# Altium integrated library Spansion Memory Flash.IntLib: 812 symbols (part 20 of 21)
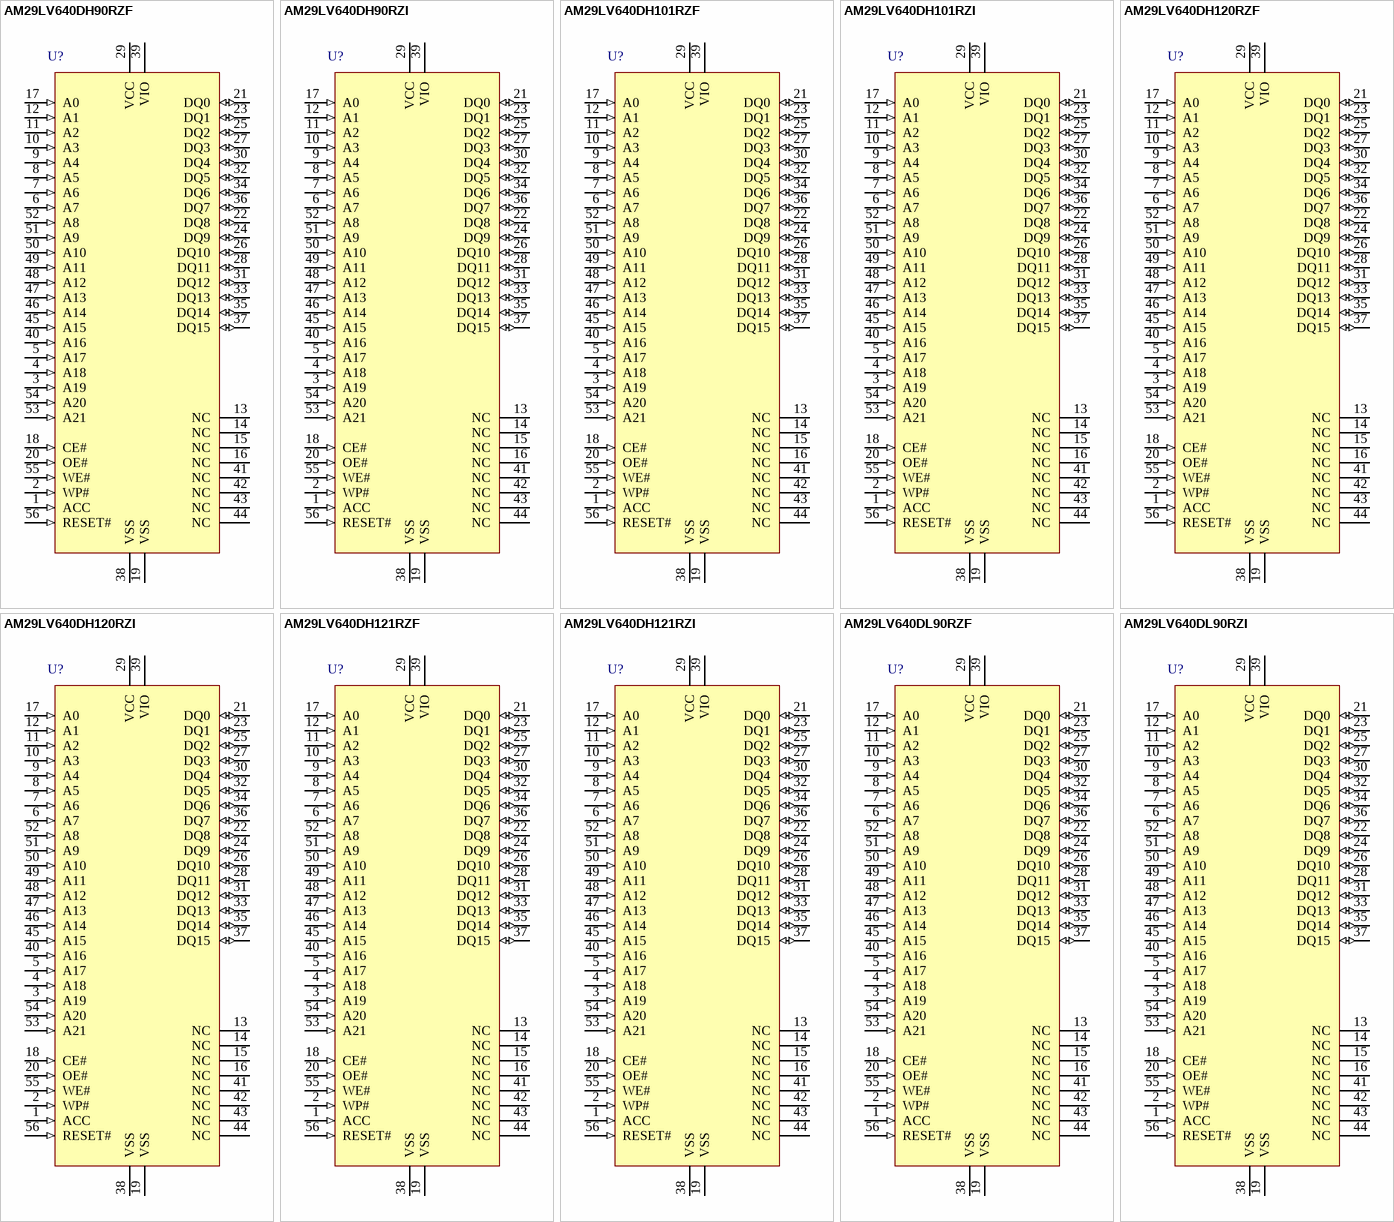
[diagram p85: symbols AM29LV640DH90RZF to AM29LV640DL90RZI]

## AM29LV640DL90RZI
designator U?
64 Mb (4 M x 16) CMOS 3.0 Volt, Uniform Sector Flash Memory with VersatileI/O Control, 56-Pin SSOP, Industrial Grade; Published: 6-Jun-2005; LatestRevisionDate: 13-Apr-2006; LatestRevisionNote: IPC-7351 Footprint Added.; DatasheetVersion: Feb-2005; PackageVersion: revAB, 10/99; PackageReference: SSO056; Publisher: Altium Limited; PackageDescription: 56-Pin Small Outline Package 0.8 mm Pitch; Code_JEDEC: MO-180-BA*; ComponentLink1Description: Manufacturer Link; ComponentLink1URL: http://www.spansion.com/; ComponentLink2Description: Datasheet; ComponentLink2URL: http://www.spansion.com/datasheets/22366c3.pdf
footprint SSO056_N (SOP, 56-Leads, Body 23.7x13.3mm, Pitch 0.8mm, IPC Medium Density)
footprint SSO056_L (SOP, 56-Leads, Body 23.7x13.3mm, Pitch 0.8mm, IPC High Density)
footprint SSO056_M (SOP, 56-Leads, Body 23.7x13.3mm, Pitch 0.8mm, IPC Low Density)
3D model SSO056 (56-Pin Small Outline Package 0.8 mm Pitch)
pins: 1 ACC (in), 2 WP# (in), 3 A19 (in), 4 A18 (in), 5 A17 (in), 6 A7 (in), 7 A6 (in), 8 A5 (in), 9 A4 (in), 10 A3 (in), 11 A2 (in), 12 A1 (in), 13 NC, 14 NC, 15 NC, 16 NC, 17 A0 (in), 18 CE# (in), 19 VSS (power), 20 OE# (in), 21 DQ0 (io), 22 DQ8 (io), 23 DQ1 (io), 24 DQ9 (io), 25 DQ2 (io), 26 DQ10 (io), 27 DQ3 (io), 28 DQ11 (io), 29 VCC (power), 30 DQ4 (io), 31 DQ12 (io), 32 DQ5 (io), 33 DQ13 (io), 34 DQ6 (io), 35 DQ14 (io), 36 DQ7 (io), 37 DQ15 (io), 38 VSS (power), 39 VIO (power), 40 A16 (in), 41 NC, 42 NC, 43 NC, 44 NC, 45 A15 (in), 46 A14 (in), 47 A13 (in), 48 A12 (in), 49 A11 (in), 50 A10 (in), 51 A9 (in), 52 A8 (in), 53 A21 (in), 54 A20 (in), 55 WE# (in), 56 RESET# (in)

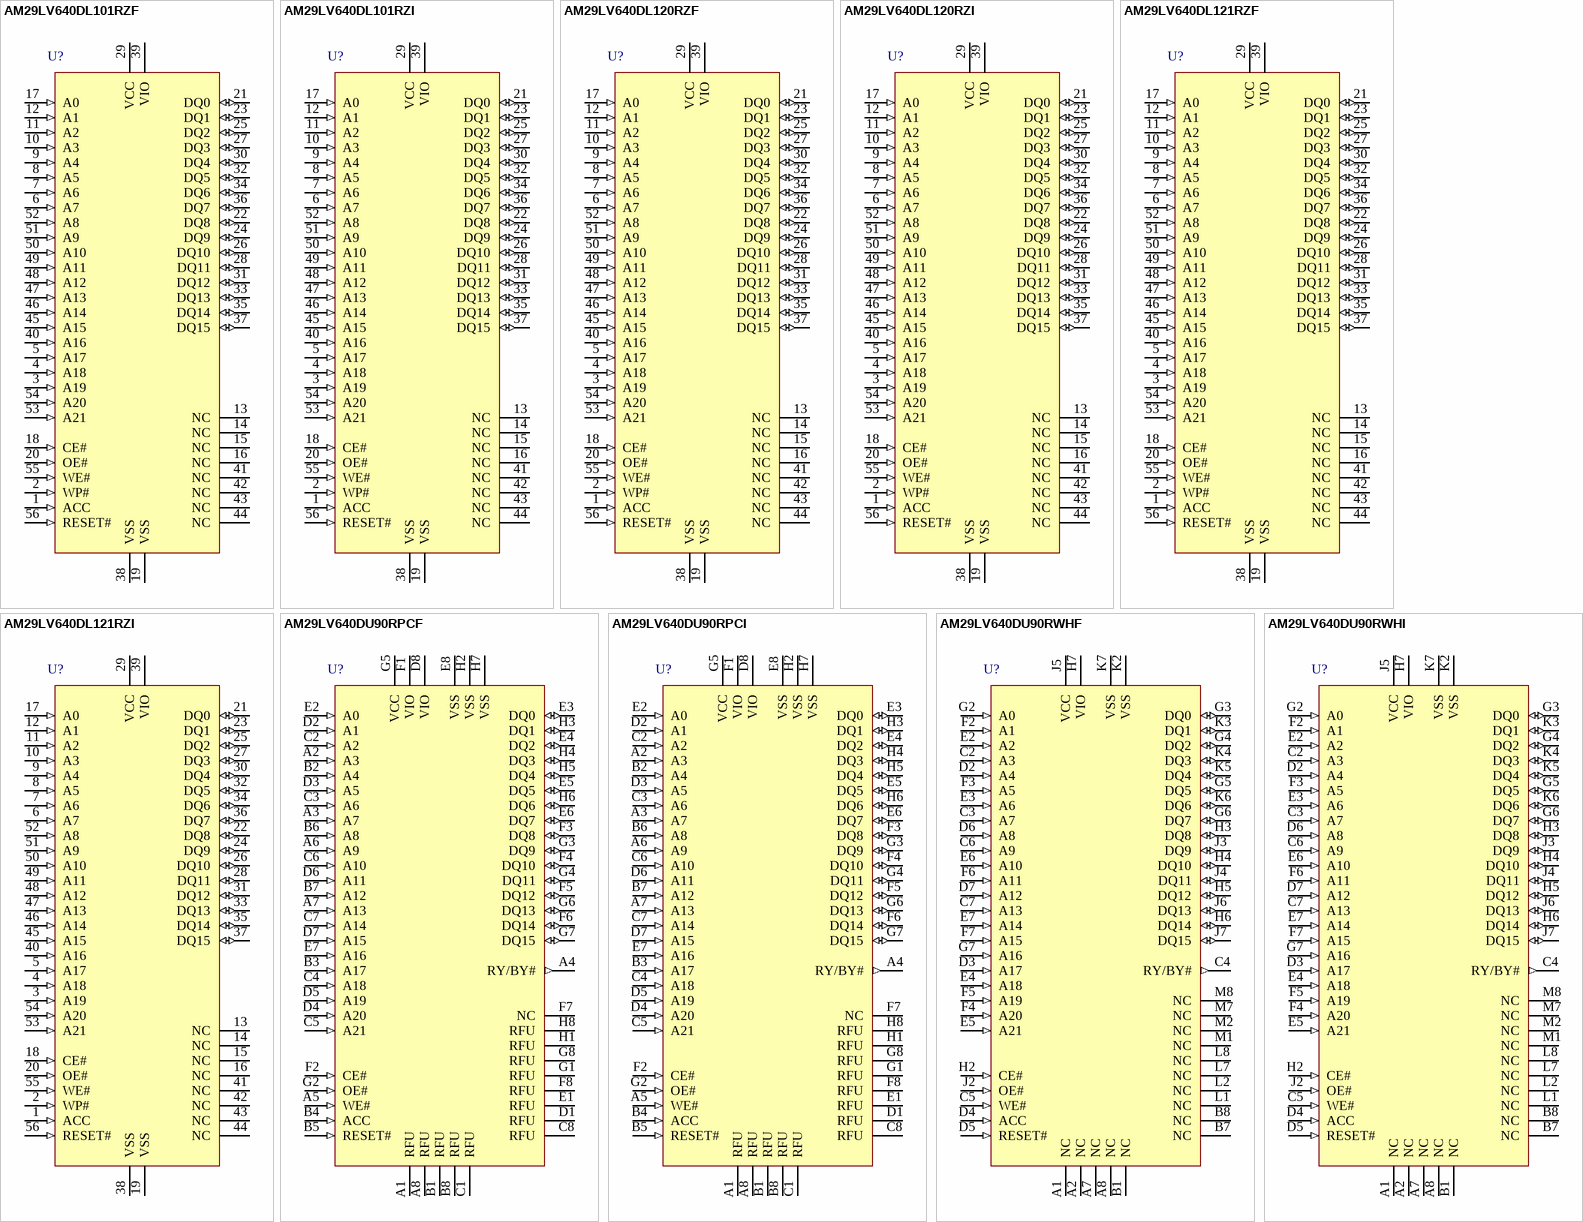
[diagram p61: symbols AM29LV640DL101RZF to AM29LV640DU90RWHI]

## AM29LV640DL101RZF
designator U?
64 Mb (4 M x 16) CMOS 3.0 Volt, Uniform Sector Flash Memory with VersatileI/O Control, 56-Pin SSOP, Industrial Grade, Pb-free; Published: 6-Jun-2005; LatestRevisionDate: 13-Apr-2006; LatestRevisionNote: IPC-7351 Footprint Added.; DatasheetVersion: Feb-2005; PackageVersion: revAB, 10/99; PackageReference: SSO056; Publisher: Altium Limited; PackageDescription: 56-Pin Small Outline Package 0.8 mm Pitch; Code_JEDEC: MO-180-BA*; ComponentLink1Description: Manufacturer Link; ComponentLink1URL: http://www.spansion.com/; ComponentLink2Description: Datasheet; ComponentLink2URL: http://www.spansion.com/datasheets/22366c3.pdf
footprint SSO056_N (SOP, 56-Leads, Body 23.7x13.3mm, Pitch 0.8mm, IPC Medium Density)
footprint SSO056_L (SOP, 56-Leads, Body 23.7x13.3mm, Pitch 0.8mm, IPC High Density)
footprint SSO056_M (SOP, 56-Leads, Body 23.7x13.3mm, Pitch 0.8mm, IPC Low Density)
3D model SSO056 (56-Pin Small Outline Package 0.8 mm Pitch)
pins: 1 ACC (in), 2 WP# (in), 3 A19 (in), 4 A18 (in), 5 A17 (in), 6 A7 (in), 7 A6 (in), 8 A5 (in), 9 A4 (in), 10 A3 (in), 11 A2 (in), 12 A1 (in), 13 NC, 14 NC, 15 NC, 16 NC, 17 A0 (in), 18 CE# (in), 19 VSS (power), 20 OE# (in), 21 DQ0 (io), 22 DQ8 (io), 23 DQ1 (io), 24 DQ9 (io), 25 DQ2 (io), 26 DQ10 (io), 27 DQ3 (io), 28 DQ11 (io), 29 VCC (power), 30 DQ4 (io), 31 DQ12 (io), 32 DQ5 (io), 33 DQ13 (io), 34 DQ6 (io), 35 DQ14 (io), 36 DQ7 (io), 37 DQ15 (io), 38 VSS (power), 39 VIO (power), 40 A16 (in), 41 NC, 42 NC, 43 NC, 44 NC, 45 A15 (in), 46 A14 (in), 47 A13 (in), 48 A12 (in), 49 A11 (in), 50 A10 (in), 51 A9 (in), 52 A8 (in), 53 A21 (in), 54 A20 (in), 55 WE# (in), 56 RESET# (in)

## AM29LV640DL101RZI
designator U?
64 Mb (4 M x 16) CMOS 3.0 Volt, Uniform Sector Flash Memory with VersatileI/O Control, 56-Pin SSOP, Industrial Grade; Published: 6-Jun-2005; LatestRevisionDate: 13-Apr-2006; LatestRevisionNote: IPC-7351 Footprint Added.; DatasheetVersion: Feb-2005; PackageVersion: revAB, 10/99; PackageReference: SSO056; Publisher: Altium Limited; PackageDescription: 56-Pin Small Outline Package 0.8 mm Pitch; Code_JEDEC: MO-180-BA*; ComponentLink1Description: Manufacturer Link; ComponentLink1URL: http://www.spansion.com/; ComponentLink2Description: Datasheet; ComponentLink2URL: http://www.spansion.com/datasheets/22366c3.pdf
footprint SSO056_N (SOP, 56-Leads, Body 23.7x13.3mm, Pitch 0.8mm, IPC Medium Density)
footprint SSO056_L (SOP, 56-Leads, Body 23.7x13.3mm, Pitch 0.8mm, IPC High Density)
footprint SSO056_M (SOP, 56-Leads, Body 23.7x13.3mm, Pitch 0.8mm, IPC Low Density)
3D model SSO056 (56-Pin Small Outline Package 0.8 mm Pitch)
pins: 1 ACC (in), 2 WP# (in), 3 A19 (in), 4 A18 (in), 5 A17 (in), 6 A7 (in), 7 A6 (in), 8 A5 (in), 9 A4 (in), 10 A3 (in), 11 A2 (in), 12 A1 (in), 13 NC, 14 NC, 15 NC, 16 NC, 17 A0 (in), 18 CE# (in), 19 VSS (power), 20 OE# (in), 21 DQ0 (io), 22 DQ8 (io), 23 DQ1 (io), 24 DQ9 (io), 25 DQ2 (io), 26 DQ10 (io), 27 DQ3 (io), 28 DQ11 (io), 29 VCC (power), 30 DQ4 (io), 31 DQ12 (io), 32 DQ5 (io), 33 DQ13 (io), 34 DQ6 (io), 35 DQ14 (io), 36 DQ7 (io), 37 DQ15 (io), 38 VSS (power), 39 VIO (power), 40 A16 (in), 41 NC, 42 NC, 43 NC, 44 NC, 45 A15 (in), 46 A14 (in), 47 A13 (in), 48 A12 (in), 49 A11 (in), 50 A10 (in), 51 A9 (in), 52 A8 (in), 53 A21 (in), 54 A20 (in), 55 WE# (in), 56 RESET# (in)

## AM29LV640DL120RZF
designator U?
64 Mb (4 M x 16) CMOS 3.0 Volt, Uniform Sector Flash Memory with VersatileI/O Control, 56-Pin SSOP, Industrial Grade, Pb-free; Published: 6-Jun-2005; LatestRevisionDate: 13-Apr-2006; LatestRevisionNote: IPC-7351 Footprint Added.; DatasheetVersion: Feb-2005; PackageVersion: revAB, 10/99; PackageReference: SSO056; Publisher: Altium Limited; PackageDescription: 56-Pin Small Outline Package 0.8 mm Pitch; Code_JEDEC: MO-180-BA*; ComponentLink1Description: Manufacturer Link; ComponentLink1URL: http://www.spansion.com/; ComponentLink2Description: Datasheet; ComponentLink2URL: http://www.spansion.com/datasheets/22366c3.pdf
footprint SSO056_N (SOP, 56-Leads, Body 23.7x13.3mm, Pitch 0.8mm, IPC Medium Density)
footprint SSO056_L (SOP, 56-Leads, Body 23.7x13.3mm, Pitch 0.8mm, IPC High Density)
footprint SSO056_M (SOP, 56-Leads, Body 23.7x13.3mm, Pitch 0.8mm, IPC Low Density)
3D model SSO056 (56-Pin Small Outline Package 0.8 mm Pitch)
pins: 1 ACC (in), 2 WP# (in), 3 A19 (in), 4 A18 (in), 5 A17 (in), 6 A7 (in), 7 A6 (in), 8 A5 (in), 9 A4 (in), 10 A3 (in), 11 A2 (in), 12 A1 (in), 13 NC, 14 NC, 15 NC, 16 NC, 17 A0 (in), 18 CE# (in), 19 VSS (power), 20 OE# (in), 21 DQ0 (io), 22 DQ8 (io), 23 DQ1 (io), 24 DQ9 (io), 25 DQ2 (io), 26 DQ10 (io), 27 DQ3 (io), 28 DQ11 (io), 29 VCC (power), 30 DQ4 (io), 31 DQ12 (io), 32 DQ5 (io), 33 DQ13 (io), 34 DQ6 (io), 35 DQ14 (io), 36 DQ7 (io), 37 DQ15 (io), 38 VSS (power), 39 VIO (power), 40 A16 (in), 41 NC, 42 NC, 43 NC, 44 NC, 45 A15 (in), 46 A14 (in), 47 A13 (in), 48 A12 (in), 49 A11 (in), 50 A10 (in), 51 A9 (in), 52 A8 (in), 53 A21 (in), 54 A20 (in), 55 WE# (in), 56 RESET# (in)

## AM29LV640DL120RZI
designator U?
64 Mb (4 M x 16) CMOS 3.0 Volt, Uniform Sector Flash Memory with VersatileI/O Control, 56-Pin SSOP, Industrial Grade; Published: 6-Jun-2005; LatestRevisionDate: 13-Apr-2006; LatestRevisionNote: IPC-7351 Footprint Added.; DatasheetVersion: Feb-2005; PackageVersion: revAB, 10/99; PackageReference: SSO056; Publisher: Altium Limited; PackageDescription: 56-Pin Small Outline Package 0.8 mm Pitch; Code_JEDEC: MO-180-BA*; ComponentLink1Description: Manufacturer Link; ComponentLink1URL: http://www.spansion.com/; ComponentLink2Description: Datasheet; ComponentLink2URL: http://www.spansion.com/datasheets/22366c3.pdf
footprint SSO056_N (SOP, 56-Leads, Body 23.7x13.3mm, Pitch 0.8mm, IPC Medium Density)
footprint SSO056_L (SOP, 56-Leads, Body 23.7x13.3mm, Pitch 0.8mm, IPC High Density)
footprint SSO056_M (SOP, 56-Leads, Body 23.7x13.3mm, Pitch 0.8mm, IPC Low Density)
3D model SSO056 (56-Pin Small Outline Package 0.8 mm Pitch)
pins: 1 ACC (in), 2 WP# (in), 3 A19 (in), 4 A18 (in), 5 A17 (in), 6 A7 (in), 7 A6 (in), 8 A5 (in), 9 A4 (in), 10 A3 (in), 11 A2 (in), 12 A1 (in), 13 NC, 14 NC, 15 NC, 16 NC, 17 A0 (in), 18 CE# (in), 19 VSS (power), 20 OE# (in), 21 DQ0 (io), 22 DQ8 (io), 23 DQ1 (io), 24 DQ9 (io), 25 DQ2 (io), 26 DQ10 (io), 27 DQ3 (io), 28 DQ11 (io), 29 VCC (power), 30 DQ4 (io), 31 DQ12 (io), 32 DQ5 (io), 33 DQ13 (io), 34 DQ6 (io), 35 DQ14 (io), 36 DQ7 (io), 37 DQ15 (io), 38 VSS (power), 39 VIO (power), 40 A16 (in), 41 NC, 42 NC, 43 NC, 44 NC, 45 A15 (in), 46 A14 (in), 47 A13 (in), 48 A12 (in), 49 A11 (in), 50 A10 (in), 51 A9 (in), 52 A8 (in), 53 A21 (in), 54 A20 (in), 55 WE# (in), 56 RESET# (in)

## AM29LV640DL121RZF
designator U?
64 Mb (4 M x 16) CMOS 3.0 Volt, Uniform Sector Flash Memory with VersatileI/O Control, 56-Pin SSOP, Industrial Grade, Pb-free; Published: 6-Jun-2005; LatestRevisionDate: 13-Apr-2006; LatestRevisionNote: IPC-7351 Footprint Added.; DatasheetVersion: Feb-2005; PackageVersion: revAB, 10/99; PackageReference: SSO056; Publisher: Altium Limited; PackageDescription: 56-Pin Small Outline Package 0.8 mm Pitch; Code_JEDEC: MO-180-BA*; ComponentLink1Description: Manufacturer Link; ComponentLink1URL: http://www.spansion.com/; ComponentLink2Description: Datasheet; ComponentLink2URL: http://www.spansion.com/datasheets/22366c3.pdf
footprint SSO056_N (SOP, 56-Leads, Body 23.7x13.3mm, Pitch 0.8mm, IPC Medium Density)
footprint SSO056_L (SOP, 56-Leads, Body 23.7x13.3mm, Pitch 0.8mm, IPC High Density)
footprint SSO056_M (SOP, 56-Leads, Body 23.7x13.3mm, Pitch 0.8mm, IPC Low Density)
3D model SSO056 (56-Pin Small Outline Package 0.8 mm Pitch)
pins: 1 ACC (in), 2 WP# (in), 3 A19 (in), 4 A18 (in), 5 A17 (in), 6 A7 (in), 7 A6 (in), 8 A5 (in), 9 A4 (in), 10 A3 (in), 11 A2 (in), 12 A1 (in), 13 NC, 14 NC, 15 NC, 16 NC, 17 A0 (in), 18 CE# (in), 19 VSS (power), 20 OE# (in), 21 DQ0 (io), 22 DQ8 (io), 23 DQ1 (io), 24 DQ9 (io), 25 DQ2 (io), 26 DQ10 (io), 27 DQ3 (io), 28 DQ11 (io), 29 VCC (power), 30 DQ4 (io), 31 DQ12 (io), 32 DQ5 (io), 33 DQ13 (io), 34 DQ6 (io), 35 DQ14 (io), 36 DQ7 (io), 37 DQ15 (io), 38 VSS (power), 39 VIO (power), 40 A16 (in), 41 NC, 42 NC, 43 NC, 44 NC, 45 A15 (in), 46 A14 (in), 47 A13 (in), 48 A12 (in), 49 A11 (in), 50 A10 (in), 51 A9 (in), 52 A8 (in), 53 A21 (in), 54 A20 (in), 55 WE# (in), 56 RESET# (in)

## AM29LV640DL121RZI
designator U?
64 Mb (4 M x 16) CMOS 3.0 Volt, Uniform Sector Flash Memory with VersatileI/O Control, 56-Pin SSOP, Industrial Grade; Published: 6-Jun-2005; LatestRevisionDate: 13-Apr-2006; LatestRevisionNote: IPC-7351 Footprint Added.; DatasheetVersion: Feb-2005; PackageVersion: revAB, 10/99; PackageReference: SSO056; Publisher: Altium Limited; PackageDescription: 56-Pin Small Outline Package 0.8 mm Pitch; Code_JEDEC: MO-180-BA*; ComponentLink1Description: Manufacturer Link; ComponentLink1URL: http://www.spansion.com/; ComponentLink2Description: Datasheet; ComponentLink2URL: http://www.spansion.com/datasheets/22366c3.pdf
footprint SSO056_N (SOP, 56-Leads, Body 23.7x13.3mm, Pitch 0.8mm, IPC Medium Density)
footprint SSO056_L (SOP, 56-Leads, Body 23.7x13.3mm, Pitch 0.8mm, IPC High Density)
footprint SSO056_M (SOP, 56-Leads, Body 23.7x13.3mm, Pitch 0.8mm, IPC Low Density)
3D model SSO056 (56-Pin Small Outline Package 0.8 mm Pitch)
pins: 1 ACC (in), 2 WP# (in), 3 A19 (in), 4 A18 (in), 5 A17 (in), 6 A7 (in), 7 A6 (in), 8 A5 (in), 9 A4 (in), 10 A3 (in), 11 A2 (in), 12 A1 (in), 13 NC, 14 NC, 15 NC, 16 NC, 17 A0 (in), 18 CE# (in), 19 VSS (power), 20 OE# (in), 21 DQ0 (io), 22 DQ8 (io), 23 DQ1 (io), 24 DQ9 (io), 25 DQ2 (io), 26 DQ10 (io), 27 DQ3 (io), 28 DQ11 (io), 29 VCC (power), 30 DQ4 (io), 31 DQ12 (io), 32 DQ5 (io), 33 DQ13 (io), 34 DQ6 (io), 35 DQ14 (io), 36 DQ7 (io), 37 DQ15 (io), 38 VSS (power), 39 VIO (power), 40 A16 (in), 41 NC, 42 NC, 43 NC, 44 NC, 45 A15 (in), 46 A14 (in), 47 A13 (in), 48 A12 (in), 49 A11 (in), 50 A10 (in), 51 A9 (in), 52 A8 (in), 53 A21 (in), 54 A20 (in), 55 WE# (in), 56 RESET# (in)

## AM29LV640DU90RPCF
designator U?
64 Mb (4 M x 16) CMOS 3.0 Volt, Uniform Sector Flash Memory with VersatileI/O Control, 64-Ball Fortified BGA, Industrial Grade, Pb-free; Published: 6-Oct-2005; LatestRevisionDate: 13-Apr-2006; LatestRevisionNote: IPC-7351 Footprint Added.; DatasheetVersion: Feb-2005; PackageVersion: Feb-2005; PackageReference: LAA064; Publisher: Altium Limited; PackageDescription: 64-Ball Fortified Ball Grid Array Rectangular 1 mm Pitch; ComponentLink1Description: Manufacturer Link; ComponentLink1URL: http://www.spansion.com/; ComponentLink2Description: Datasheet; ComponentLink2URL: http://www.spansion.com/datasheets/22366c3.pdf
footprint LAA064 (BGA, 64-Leads, Body 13x11mm, Pitch 1mm)
pins: A1 RFU, A2 A3 (in), A3 A7 (in), A4 RY/BY# (out), A5 WE# (in), A6 A9 (in), A7 A13 (in), A8 RFU, B1 RFU, B2 A4 (in), B3 A17 (in), B4 ACC (in), B5 RESET# (in), B6 A8 (in), B7 A12 (in), B8 RFU, C1 RFU, C2 A2 (in), C3 A6 (in), C4 A18 (in), C5 A21 (in), C6 A10 (in), C7 A14 (in), C8 RFU, D1 RFU, D2 A1 (in), D3 A5 (in), D4 A20 (in), D5 A19 (in), D6 A11 (in), D7 A15 (in), D8 VIO (power), E1 RFU, E2 A0 (in), E3 DQ0 (io), E4 DQ2 (io), E5 DQ5 (io), E6 DQ7 (io), E7 A16 (in), E8 VSS (power), F1 VIO (power), F2 CE# (in), F3 DQ8 (io), F4 DQ10 (io), F5 DQ12 (io), F6 DQ14 (io), F7 NC, F8 RFU, G1 RFU, G2 OE# (in), G3 DQ9 (io), G4 DQ11 (io), G5 VCC (power), G6 DQ13 (io), G7 DQ15 (io), G8 RFU, H1 RFU, H2 VSS (power), H3 DQ1 (io), H4 DQ3 (io), H5 DQ4 (io), H6 DQ6 (io), H7 VSS (power), H8 RFU

## AM29LV640DU90RPCI
designator U?
64 Mb (4 M x 16) CMOS 3.0 Volt, Uniform Sector Flash Memory with VersatileI/O Control, 64-Ball Fortified BGA, Industrial Grade; Published: 6-Oct-2005; LatestRevisionDate: 13-Apr-2006; LatestRevisionNote: IPC-7351 Footprint Added.; DatasheetVersion: Feb-2005; PackageVersion: Feb-2005; PackageReference: LAA064; Publisher: Altium Limited; PackageDescription: 64-Ball Fortified Ball Grid Array Rectangular 1 mm Pitch; ComponentLink1Description: Manufacturer Link; ComponentLink1URL: http://www.spansion.com/; ComponentLink2Description: Datasheet; ComponentLink2URL: http://www.spansion.com/datasheets/22366c3.pdf
footprint LAA064 (BGA, 64-Leads, Body 13x11mm, Pitch 1mm)
pins: A1 RFU, A2 A3 (in), A3 A7 (in), A4 RY/BY# (out), A5 WE# (in), A6 A9 (in), A7 A13 (in), A8 RFU, B1 RFU, B2 A4 (in), B3 A17 (in), B4 ACC (in), B5 RESET# (in), B6 A8 (in), B7 A12 (in), B8 RFU, C1 RFU, C2 A2 (in), C3 A6 (in), C4 A18 (in), C5 A21 (in), C6 A10 (in), C7 A14 (in), C8 RFU, D1 RFU, D2 A1 (in), D3 A5 (in), D4 A20 (in), D5 A19 (in), D6 A11 (in), D7 A15 (in), D8 VIO (power), E1 RFU, E2 A0 (in), E3 DQ0 (io), E4 DQ2 (io), E5 DQ5 (io), E6 DQ7 (io), E7 A16 (in), E8 VSS (power), F1 VIO (power), F2 CE# (in), F3 DQ8 (io), F4 DQ10 (io), F5 DQ12 (io), F6 DQ14 (io), F7 NC, F8 RFU, G1 RFU, G2 OE# (in), G3 DQ9 (io), G4 DQ11 (io), G5 VCC (power), G6 DQ13 (io), G7 DQ15 (io), G8 RFU, H1 RFU, H2 VSS (power), H3 DQ1 (io), H4 DQ3 (io), H5 DQ4 (io), H6 DQ6 (io), H7 VSS (power), H8 RFU

## AM29LV640DU90RWHF
designator U?
64 Mb (4 M x 16) CMOS 3.0 Volt, Uniform Sector Flash Memory with VersatileI/O Control, 63-Ball FBGA, Industrial Grade, Pb-free; Published: 6-Jun-2005; LatestRevisionDate: 13-Apr-2006; LatestRevisionNote: IPC-7351 Footprint Added.; DatasheetVersion: Feb-2005; PackageVersion: revAF, 10/99; PackageReference: FBE063; Publisher: Altium Limited; PackageDescription: 63-Ball Fine Pitch Ball Grid Array Rectangular 0.8 mm Pitch; ComponentLink1Description: Manufacturer Link; ComponentLink1URL: http://www.spansion.com/; ComponentLink2Description: Datasheet; ComponentLink2URL: http://www.spansion.com/datasheets/22366c3.pdf
footprint FBE063 (BGA, 63-Leads, Body 12x11mm, Pitch 0.8mm)
pins: A1 NC, A2 NC, A7 NC, A8 NC, B1 NC, B7 NC, B8 NC, C2 A3 (in), C3 A7 (in), C4 RY/BY# (out), C5 WE# (in), C6 A9 (in), C7 A13 (in), D2 A4 (in), D3 A17 (in), D4 ACC (in), D5 RESET# (in), D6 A8 (in), D7 A12 (in), E2 A2 (in), E3 A6 (in), E4 A18 (in), E5 A21 (in), E6 A10 (in), E7 A14 (in), F2 A1 (in), F3 A5 (in), F4 A20 (in), F5 A19 (in), F6 A11 (in), F7 A15 (in), G2 A0 (in), G3 DQ0 (io), G4 DQ2 (io), G5 DQ5 (io), G6 DQ7 (io), G7 A16 (in), H2 CE# (in), H3 DQ8 (io), H4 DQ10 (io), H5 DQ12 (io), H6 DQ14 (io), H7 VIO (power), J2 OE# (in), J3 DQ9 (io), J4 DQ11 (io), J5 VCC (power), J6 DQ13 (io), J7 DQ15 (io), K2 VSS (power), K3 DQ1 (io), K4 DQ3 (io), K5 DQ4 (io), K6 DQ6 (io), K7 VSS (power), L1 NC, L2 NC, L7 NC, L8 NC, M1 NC, M2 NC, M7 NC, M8 NC

## AM29LV640DU90RWHI
designator U?
64 Mb (4 M x 16) CMOS 3.0 Volt, Uniform Sector Flash Memory with VersatileI/O Control, 63-Ball FBGA, Industrial Grade; Published: 6-Jun-2005; LatestRevisionDate: 13-Apr-2006; LatestRevisionNote: IPC-7351 Footprint Added.; DatasheetVersion: Feb-2005; PackageVersion: revAF, 10/99; PackageReference: FBE063; Publisher: Altium Limited; PackageDescription: 63-Ball Fine Pitch Ball Grid Array Rectangular 0.8 mm Pitch; ComponentLink1Description: Manufacturer Link; ComponentLink1URL: http://www.spansion.com/; ComponentLink2Description: Datasheet; ComponentLink2URL: http://www.spansion.com/datasheets/22366c3.pdf
footprint FBE063 (BGA, 63-Leads, Body 12x11mm, Pitch 0.8mm)
pins: A1 NC, A2 NC, A7 NC, A8 NC, B1 NC, B7 NC, B8 NC, C2 A3 (in), C3 A7 (in), C4 RY/BY# (out), C5 WE# (in), C6 A9 (in), C7 A13 (in), D2 A4 (in), D3 A17 (in), D4 ACC (in), D5 RESET# (in), D6 A8 (in), D7 A12 (in), E2 A2 (in), E3 A6 (in), E4 A18 (in), E5 A21 (in), E6 A10 (in), E7 A14 (in), F2 A1 (in), F3 A5 (in), F4 A20 (in), F5 A19 (in), F6 A11 (in), F7 A15 (in), G2 A0 (in), G3 DQ0 (io), G4 DQ2 (io), G5 DQ5 (io), G6 DQ7 (io), G7 A16 (in), H2 CE# (in), H3 DQ8 (io), H4 DQ10 (io), H5 DQ12 (io), H6 DQ14 (io), H7 VIO (power), J2 OE# (in), J3 DQ9 (io), J4 DQ11 (io), J5 VCC (power), J6 DQ13 (io), J7 DQ15 (io), K2 VSS (power), K3 DQ1 (io), K4 DQ3 (io), K5 DQ4 (io), K6 DQ6 (io), K7 VSS (power), L1 NC, L2 NC, L7 NC, L8 NC, M1 NC, M2 NC, M7 NC, M8 NC

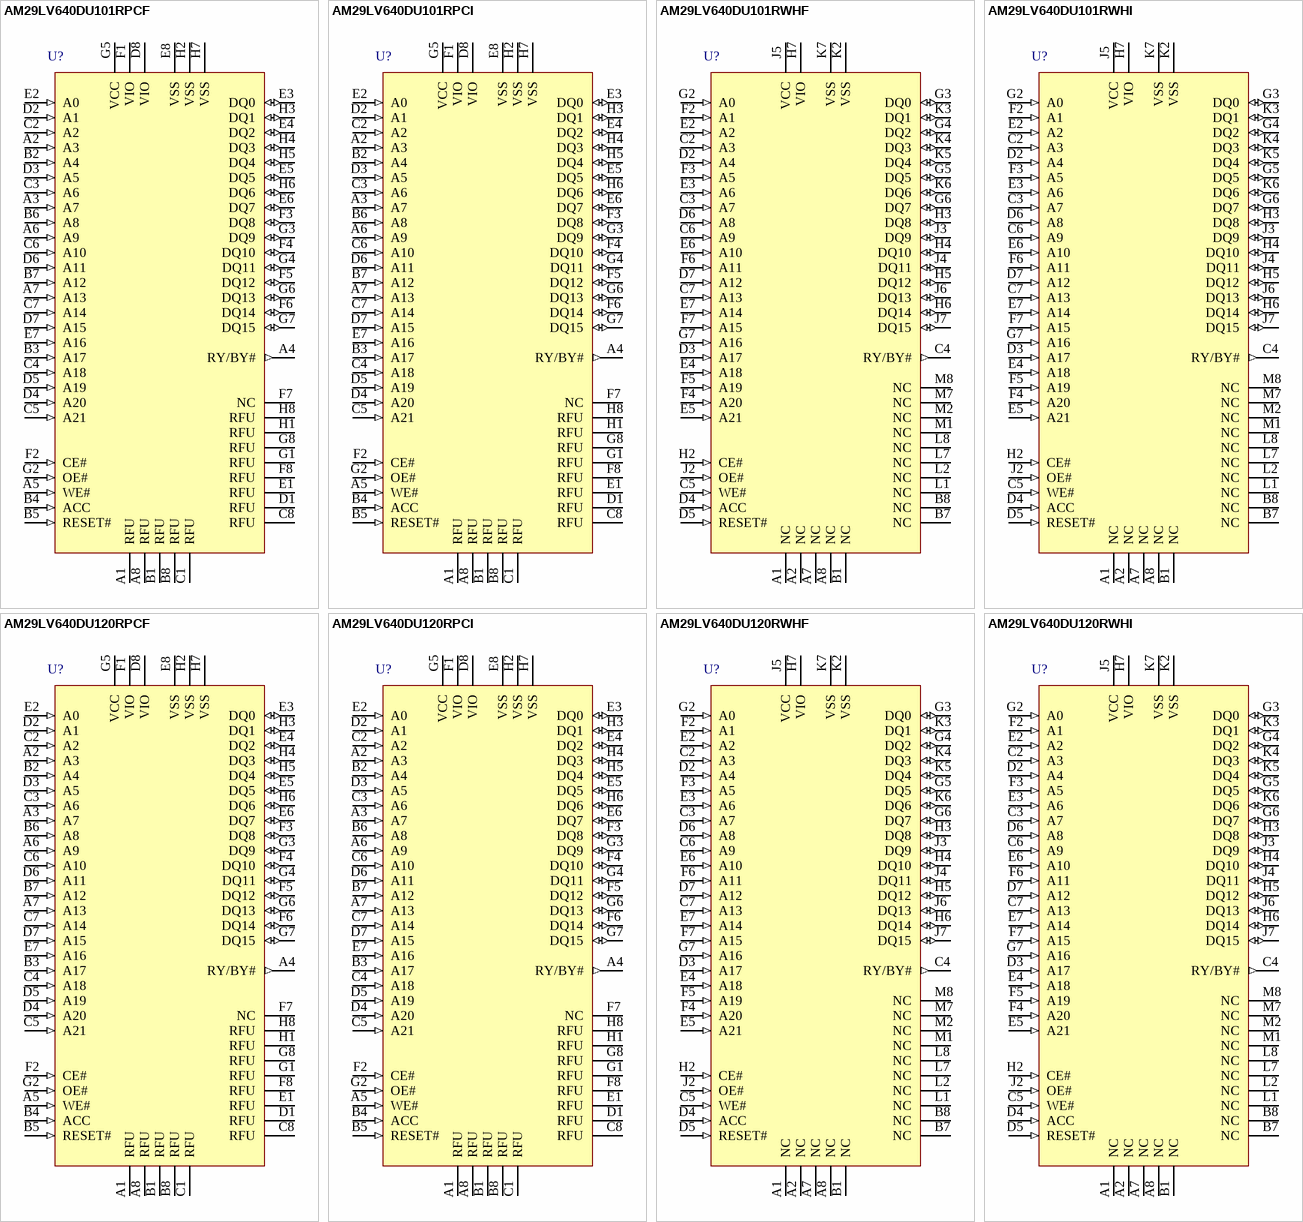
[diagram p62: symbols AM29LV640DU101RPCF to AM29LV640DU120RWHI]

## AM29LV640DU101RPCF
designator U?
64 Mb (4 M x 16) CMOS 3.0 Volt, Uniform Sector Flash Memory with VersatileI/O Control, 64-Ball Fortified BGA, Industrial Grade, Pb-free; Published: 6-Oct-2005; LatestRevisionDate: 13-Apr-2006; LatestRevisionNote: IPC-7351 Footprint Added.; DatasheetVersion: Feb-2005; PackageVersion: Feb-2005; PackageReference: LAA064; Publisher: Altium Limited; PackageDescription: 64-Ball Fortified Ball Grid Array Rectangular 1 mm Pitch; ComponentLink1Description: Manufacturer Link; ComponentLink1URL: http://www.spansion.com/; ComponentLink2Description: Datasheet; ComponentLink2URL: http://www.spansion.com/datasheets/22366c3.pdf
footprint LAA064 (BGA, 64-Leads, Body 13x11mm, Pitch 1mm)
pins: A1 RFU, A2 A3 (in), A3 A7 (in), A4 RY/BY# (out), A5 WE# (in), A6 A9 (in), A7 A13 (in), A8 RFU, B1 RFU, B2 A4 (in), B3 A17 (in), B4 ACC (in), B5 RESET# (in), B6 A8 (in), B7 A12 (in), B8 RFU, C1 RFU, C2 A2 (in), C3 A6 (in), C4 A18 (in), C5 A21 (in), C6 A10 (in), C7 A14 (in), C8 RFU, D1 RFU, D2 A1 (in), D3 A5 (in), D4 A20 (in), D5 A19 (in), D6 A11 (in), D7 A15 (in), D8 VIO (power), E1 RFU, E2 A0 (in), E3 DQ0 (io), E4 DQ2 (io), E5 DQ5 (io), E6 DQ7 (io), E7 A16 (in), E8 VSS (power), F1 VIO (power), F2 CE# (in), F3 DQ8 (io), F4 DQ10 (io), F5 DQ12 (io), F6 DQ14 (io), F7 NC, F8 RFU, G1 RFU, G2 OE# (in), G3 DQ9 (io), G4 DQ11 (io), G5 VCC (power), G6 DQ13 (io), G7 DQ15 (io), G8 RFU, H1 RFU, H2 VSS (power), H3 DQ1 (io), H4 DQ3 (io), H5 DQ4 (io), H6 DQ6 (io), H7 VSS (power), H8 RFU

## AM29LV640DU101RPCI
designator U?
64 Mb (4 M x 16) CMOS 3.0 Volt, Uniform Sector Flash Memory with VersatileI/O Control, 64-Ball Fortified BGA, Industrial Grade; Published: 6-Oct-2005; LatestRevisionDate: 13-Apr-2006; LatestRevisionNote: IPC-7351 Footprint Added.; DatasheetVersion: Feb-2005; PackageVersion: Feb-2005; PackageReference: LAA064; Publisher: Altium Limited; PackageDescription: 64-Ball Fortified Ball Grid Array Rectangular 1 mm Pitch; ComponentLink1Description: Manufacturer Link; ComponentLink1URL: http://www.spansion.com/; ComponentLink2Description: Datasheet; ComponentLink2URL: http://www.spansion.com/datasheets/22366c3.pdf
footprint LAA064 (BGA, 64-Leads, Body 13x11mm, Pitch 1mm)
pins: A1 RFU, A2 A3 (in), A3 A7 (in), A4 RY/BY# (out), A5 WE# (in), A6 A9 (in), A7 A13 (in), A8 RFU, B1 RFU, B2 A4 (in), B3 A17 (in), B4 ACC (in), B5 RESET# (in), B6 A8 (in), B7 A12 (in), B8 RFU, C1 RFU, C2 A2 (in), C3 A6 (in), C4 A18 (in), C5 A21 (in), C6 A10 (in), C7 A14 (in), C8 RFU, D1 RFU, D2 A1 (in), D3 A5 (in), D4 A20 (in), D5 A19 (in), D6 A11 (in), D7 A15 (in), D8 VIO (power), E1 RFU, E2 A0 (in), E3 DQ0 (io), E4 DQ2 (io), E5 DQ5 (io), E6 DQ7 (io), E7 A16 (in), E8 VSS (power), F1 VIO (power), F2 CE# (in), F3 DQ8 (io), F4 DQ10 (io), F5 DQ12 (io), F6 DQ14 (io), F7 NC, F8 RFU, G1 RFU, G2 OE# (in), G3 DQ9 (io), G4 DQ11 (io), G5 VCC (power), G6 DQ13 (io), G7 DQ15 (io), G8 RFU, H1 RFU, H2 VSS (power), H3 DQ1 (io), H4 DQ3 (io), H5 DQ4 (io), H6 DQ6 (io), H7 VSS (power), H8 RFU

## AM29LV640DU101RWHF
designator U?
64 Mb (4 M x 16) CMOS 3.0 Volt, Uniform Sector Flash Memory with VersatileI/O Control, 63-Ball FBGA, Industrial Grade, Pb-free; Published: 6-Jun-2005; LatestRevisionDate: 13-Apr-2006; LatestRevisionNote: IPC-7351 Footprint Added.; DatasheetVersion: Feb-2005; PackageVersion: revAF, 10/99; PackageReference: FBE063; Publisher: Altium Limited; PackageDescription: 63-Ball Fine Pitch Ball Grid Array Rectangular 0.8 mm Pitch; ComponentLink1Description: Manufacturer Link; ComponentLink1URL: http://www.spansion.com/; ComponentLink2Description: Datasheet; ComponentLink2URL: http://www.spansion.com/datasheets/22366c3.pdf
footprint FBE063 (BGA, 63-Leads, Body 12x11mm, Pitch 0.8mm)
pins: A1 NC, A2 NC, A7 NC, A8 NC, B1 NC, B7 NC, B8 NC, C2 A3 (in), C3 A7 (in), C4 RY/BY# (out), C5 WE# (in), C6 A9 (in), C7 A13 (in), D2 A4 (in), D3 A17 (in), D4 ACC (in), D5 RESET# (in), D6 A8 (in), D7 A12 (in), E2 A2 (in), E3 A6 (in), E4 A18 (in), E5 A21 (in), E6 A10 (in), E7 A14 (in), F2 A1 (in), F3 A5 (in), F4 A20 (in), F5 A19 (in), F6 A11 (in), F7 A15 (in), G2 A0 (in), G3 DQ0 (io), G4 DQ2 (io), G5 DQ5 (io), G6 DQ7 (io), G7 A16 (in), H2 CE# (in), H3 DQ8 (io), H4 DQ10 (io), H5 DQ12 (io), H6 DQ14 (io), H7 VIO (power), J2 OE# (in), J3 DQ9 (io), J4 DQ11 (io), J5 VCC (power), J6 DQ13 (io), J7 DQ15 (io), K2 VSS (power), K3 DQ1 (io), K4 DQ3 (io), K5 DQ4 (io), K6 DQ6 (io), K7 VSS (power), L1 NC, L2 NC, L7 NC, L8 NC, M1 NC, M2 NC, M7 NC, M8 NC

## AM29LV640DU101RWHI
designator U?
64 Mb (4 M x 16) CMOS 3.0 Volt, Uniform Sector Flash Memory with VersatileI/O Control, 63-Ball FBGA, Industrial Grade; Published: 6-Jun-2005; LatestRevisionDate: 13-Apr-2006; LatestRevisionNote: IPC-7351 Footprint Added.; DatasheetVersion: Feb-2005; PackageVersion: revAF, 10/99; PackageReference: FBE063; Publisher: Altium Limited; PackageDescription: 63-Ball Fine Pitch Ball Grid Array Rectangular 0.8 mm Pitch; ComponentLink1Description: Manufacturer Link; ComponentLink1URL: http://www.spansion.com/; ComponentLink2Description: Datasheet; ComponentLink2URL: http://www.spansion.com/datasheets/22366c3.pdf
footprint FBE063 (BGA, 63-Leads, Body 12x11mm, Pitch 0.8mm)
pins: A1 NC, A2 NC, A7 NC, A8 NC, B1 NC, B7 NC, B8 NC, C2 A3 (in), C3 A7 (in), C4 RY/BY# (out), C5 WE# (in), C6 A9 (in), C7 A13 (in), D2 A4 (in), D3 A17 (in), D4 ACC (in), D5 RESET# (in), D6 A8 (in), D7 A12 (in), E2 A2 (in), E3 A6 (in), E4 A18 (in), E5 A21 (in), E6 A10 (in), E7 A14 (in), F2 A1 (in), F3 A5 (in), F4 A20 (in), F5 A19 (in), F6 A11 (in), F7 A15 (in), G2 A0 (in), G3 DQ0 (io), G4 DQ2 (io), G5 DQ5 (io), G6 DQ7 (io), G7 A16 (in), H2 CE# (in), H3 DQ8 (io), H4 DQ10 (io), H5 DQ12 (io), H6 DQ14 (io), H7 VIO (power), J2 OE# (in), J3 DQ9 (io), J4 DQ11 (io), J5 VCC (power), J6 DQ13 (io), J7 DQ15 (io), K2 VSS (power), K3 DQ1 (io), K4 DQ3 (io), K5 DQ4 (io), K6 DQ6 (io), K7 VSS (power), L1 NC, L2 NC, L7 NC, L8 NC, M1 NC, M2 NC, M7 NC, M8 NC

## AM29LV640DU120RPCF
designator U?
64 Mb (4 M x 16) CMOS 3.0 Volt, Uniform Sector Flash Memory with VersatileI/O Control, 64-Ball Fortified BGA, Industrial Grade, Pb-free; Published: 6-Oct-2005; LatestRevisionDate: 13-Apr-2006; LatestRevisionNote: IPC-7351 Footprint Added.; DatasheetVersion: Feb-2005; PackageVersion: Feb-2005; PackageReference: LAA064; Publisher: Altium Limited; PackageDescription: 64-Ball Fortified Ball Grid Array Rectangular 1 mm Pitch; ComponentLink1Description: Manufacturer Link; ComponentLink1URL: http://www.spansion.com/; ComponentLink2Description: Datasheet; ComponentLink2URL: http://www.spansion.com/datasheets/22366c3.pdf
footprint LAA064 (BGA, 64-Leads, Body 13x11mm, Pitch 1mm)
pins: A1 RFU, A2 A3 (in), A3 A7 (in), A4 RY/BY# (out), A5 WE# (in), A6 A9 (in), A7 A13 (in), A8 RFU, B1 RFU, B2 A4 (in), B3 A17 (in), B4 ACC (in), B5 RESET# (in), B6 A8 (in), B7 A12 (in), B8 RFU, C1 RFU, C2 A2 (in), C3 A6 (in), C4 A18 (in), C5 A21 (in), C6 A10 (in), C7 A14 (in), C8 RFU, D1 RFU, D2 A1 (in), D3 A5 (in), D4 A20 (in), D5 A19 (in), D6 A11 (in), D7 A15 (in), D8 VIO (power), E1 RFU, E2 A0 (in), E3 DQ0 (io), E4 DQ2 (io), E5 DQ5 (io), E6 DQ7 (io), E7 A16 (in), E8 VSS (power), F1 VIO (power), F2 CE# (in), F3 DQ8 (io), F4 DQ10 (io), F5 DQ12 (io), F6 DQ14 (io), F7 NC, F8 RFU, G1 RFU, G2 OE# (in), G3 DQ9 (io), G4 DQ11 (io), G5 VCC (power), G6 DQ13 (io), G7 DQ15 (io), G8 RFU, H1 RFU, H2 VSS (power), H3 DQ1 (io), H4 DQ3 (io), H5 DQ4 (io), H6 DQ6 (io), H7 VSS (power), H8 RFU

## AM29LV640DU120RPCI
designator U?
64 Mb (4 M x 16) CMOS 3.0 Volt, Uniform Sector Flash Memory with VersatileI/O Control, 64-Ball Fortified BGA, Industrial Grade; Published: 6-Oct-2005; LatestRevisionDate: 13-Apr-2006; LatestRevisionNote: IPC-7351 Footprint Added.; DatasheetVersion: Feb-2005; PackageVersion: Feb-2005; PackageReference: LAA064; Publisher: Altium Limited; PackageDescription: 64-Ball Fortified Ball Grid Array Rectangular 1 mm Pitch; ComponentLink1Description: Manufacturer Link; ComponentLink1URL: http://www.spansion.com/; ComponentLink2Description: Datasheet; ComponentLink2URL: http://www.spansion.com/datasheets/22366c3.pdf
footprint LAA064 (BGA, 64-Leads, Body 13x11mm, Pitch 1mm)
pins: A1 RFU, A2 A3 (in), A3 A7 (in), A4 RY/BY# (out), A5 WE# (in), A6 A9 (in), A7 A13 (in), A8 RFU, B1 RFU, B2 A4 (in), B3 A17 (in), B4 ACC (in), B5 RESET# (in), B6 A8 (in), B7 A12 (in), B8 RFU, C1 RFU, C2 A2 (in), C3 A6 (in), C4 A18 (in), C5 A21 (in), C6 A10 (in), C7 A14 (in), C8 RFU, D1 RFU, D2 A1 (in), D3 A5 (in), D4 A20 (in), D5 A19 (in), D6 A11 (in), D7 A15 (in), D8 VIO (power), E1 RFU, E2 A0 (in), E3 DQ0 (io), E4 DQ2 (io), E5 DQ5 (io), E6 DQ7 (io), E7 A16 (in), E8 VSS (power), F1 VIO (power), F2 CE# (in), F3 DQ8 (io), F4 DQ10 (io), F5 DQ12 (io), F6 DQ14 (io), F7 NC, F8 RFU, G1 RFU, G2 OE# (in), G3 DQ9 (io), G4 DQ11 (io), G5 VCC (power), G6 DQ13 (io), G7 DQ15 (io), G8 RFU, H1 RFU, H2 VSS (power), H3 DQ1 (io), H4 DQ3 (io), H5 DQ4 (io), H6 DQ6 (io), H7 VSS (power), H8 RFU

## AM29LV640DU120RWHF
designator U?
64 Mb (4 M x 16) CMOS 3.0 Volt, Uniform Sector Flash Memory with VersatileI/O Control, 63-Ball FBGA, Industrial Grade, Pb-free; Published: 6-Jun-2005; LatestRevisionDate: 13-Apr-2006; LatestRevisionNote: IPC-7351 Footprint Added.; DatasheetVersion: Feb-2005; PackageVersion: revAF, 10/99; PackageReference: FBE063; Publisher: Altium Limited; PackageDescription: 63-Ball Fine Pitch Ball Grid Array Rectangular 0.8 mm Pitch; ComponentLink1Description: Manufacturer Link; ComponentLink1URL: http://www.spansion.com/; ComponentLink2Description: Datasheet; ComponentLink2URL: http://www.spansion.com/datasheets/22366c3.pdf
footprint FBE063 (BGA, 63-Leads, Body 12x11mm, Pitch 0.8mm)
pins: A1 NC, A2 NC, A7 NC, A8 NC, B1 NC, B7 NC, B8 NC, C2 A3 (in), C3 A7 (in), C4 RY/BY# (out), C5 WE# (in), C6 A9 (in), C7 A13 (in), D2 A4 (in), D3 A17 (in), D4 ACC (in), D5 RESET# (in), D6 A8 (in), D7 A12 (in), E2 A2 (in), E3 A6 (in), E4 A18 (in), E5 A21 (in), E6 A10 (in), E7 A14 (in), F2 A1 (in), F3 A5 (in), F4 A20 (in), F5 A19 (in), F6 A11 (in), F7 A15 (in), G2 A0 (in), G3 DQ0 (io), G4 DQ2 (io), G5 DQ5 (io), G6 DQ7 (io), G7 A16 (in), H2 CE# (in), H3 DQ8 (io), H4 DQ10 (io), H5 DQ12 (io), H6 DQ14 (io), H7 VIO (power), J2 OE# (in), J3 DQ9 (io), J4 DQ11 (io), J5 VCC (power), J6 DQ13 (io), J7 DQ15 (io), K2 VSS (power), K3 DQ1 (io), K4 DQ3 (io), K5 DQ4 (io), K6 DQ6 (io), K7 VSS (power), L1 NC, L2 NC, L7 NC, L8 NC, M1 NC, M2 NC, M7 NC, M8 NC

## AM29LV640DU120RWHI
designator U?
64 Mb (4 M x 16) CMOS 3.0 Volt, Uniform Sector Flash Memory with VersatileI/O Control, 63-Ball FBGA, Industrial Grade; Published: 6-Jun-2005; LatestRevisionDate: 13-Apr-2006; LatestRevisionNote: IPC-7351 Footprint Added.; DatasheetVersion: Feb-2005; PackageVersion: revAF, 10/99; PackageReference: FBE063; Publisher: Altium Limited; PackageDescription: 63-Ball Fine Pitch Ball Grid Array Rectangular 0.8 mm Pitch; ComponentLink1Description: Manufacturer Link; ComponentLink1URL: http://www.spansion.com/; ComponentLink2Description: Datasheet; ComponentLink2URL: http://www.spansion.com/datasheets/22366c3.pdf
footprint FBE063 (BGA, 63-Leads, Body 12x11mm, Pitch 0.8mm)
pins: A1 NC, A2 NC, A7 NC, A8 NC, B1 NC, B7 NC, B8 NC, C2 A3 (in), C3 A7 (in), C4 RY/BY# (out), C5 WE# (in), C6 A9 (in), C7 A13 (in), D2 A4 (in), D3 A17 (in), D4 ACC (in), D5 RESET# (in), D6 A8 (in), D7 A12 (in), E2 A2 (in), E3 A6 (in), E4 A18 (in), E5 A21 (in), E6 A10 (in), E7 A14 (in), F2 A1 (in), F3 A5 (in), F4 A20 (in), F5 A19 (in), F6 A11 (in), F7 A15 (in), G2 A0 (in), G3 DQ0 (io), G4 DQ2 (io), G5 DQ5 (io), G6 DQ7 (io), G7 A16 (in), H2 CE# (in), H3 DQ8 (io), H4 DQ10 (io), H5 DQ12 (io), H6 DQ14 (io), H7 VIO (power), J2 OE# (in), J3 DQ9 (io), J4 DQ11 (io), J5 VCC (power), J6 DQ13 (io), J7 DQ15 (io), K2 VSS (power), K3 DQ1 (io), K4 DQ3 (io), K5 DQ4 (io), K6 DQ6 (io), K7 VSS (power), L1 NC, L2 NC, L7 NC, L8 NC, M1 NC, M2 NC, M7 NC, M8 NC

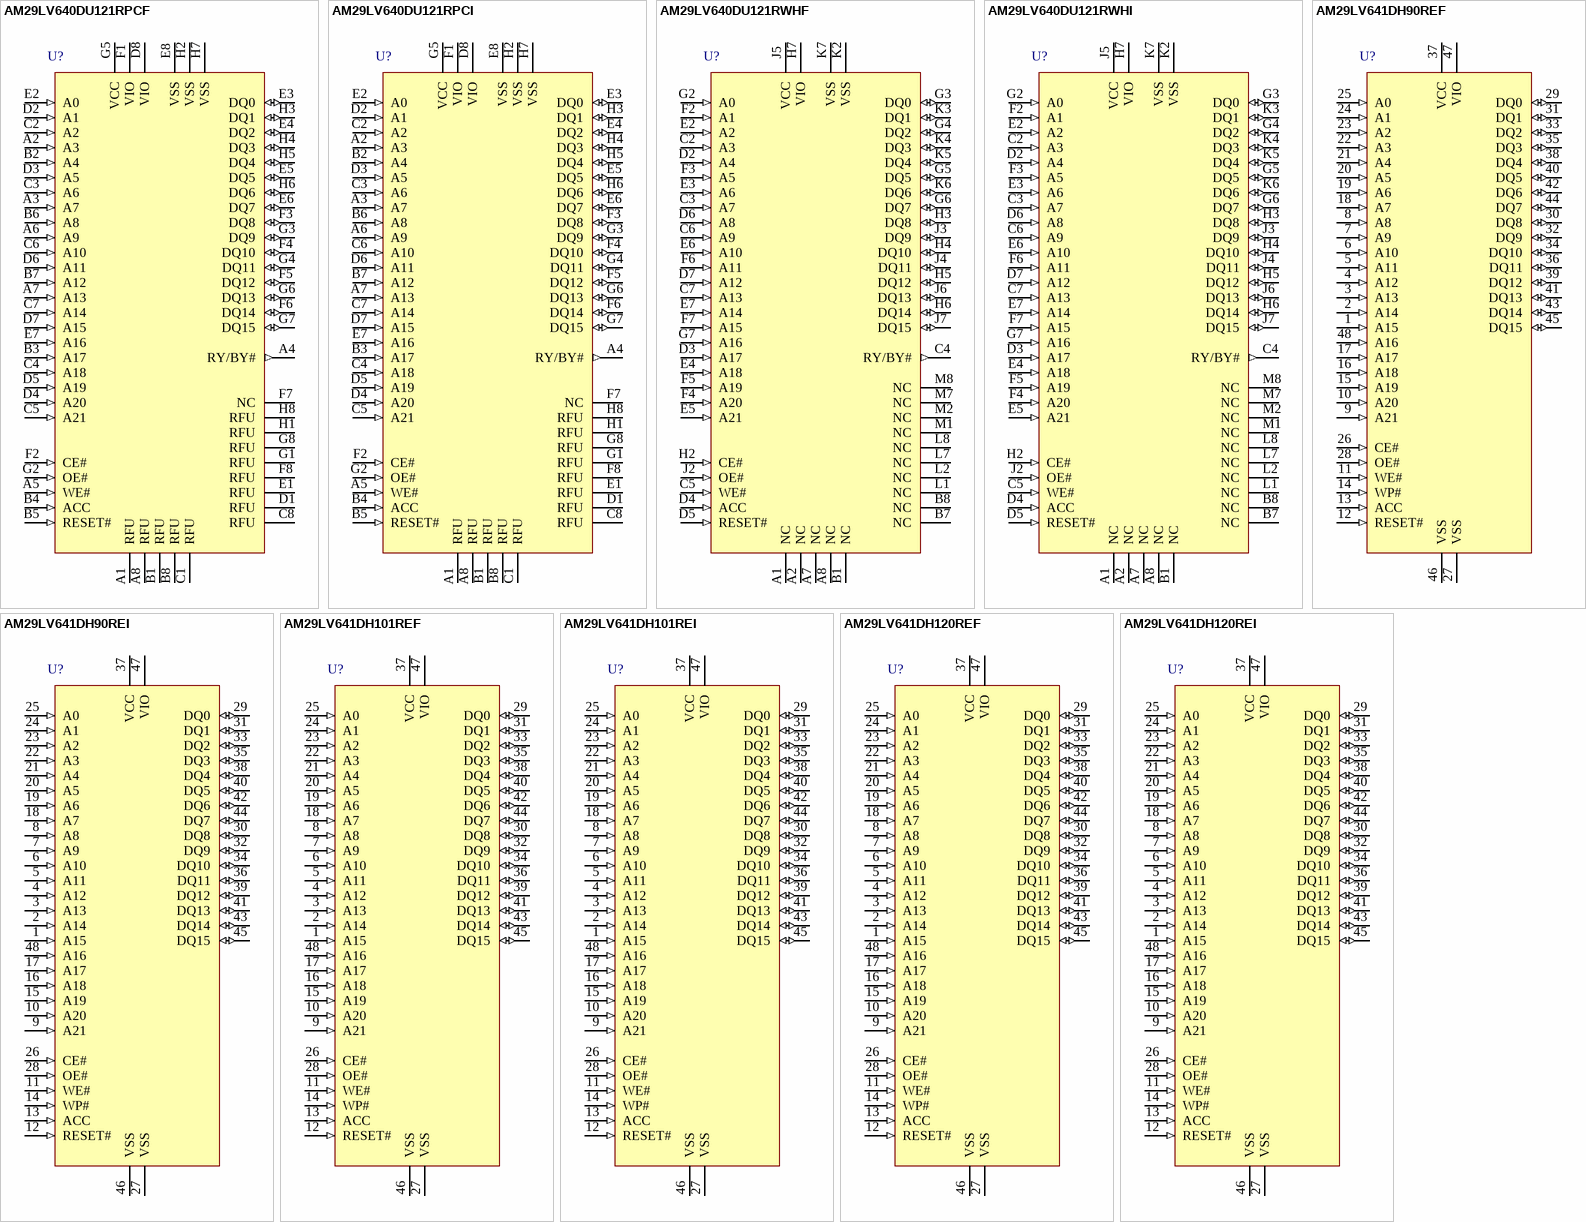
[diagram p63: symbols AM29LV640DU121RPCF to AM29LV641DH120REI]

## AM29LV640DU121RPCF
designator U?
64 Mb (4 M x 16) CMOS 3.0 Volt, Uniform Sector Flash Memory with VersatileI/O Control, 64-Ball Fortified BGA, Industrial Grade, Pb-free; Published: 6-Oct-2005; LatestRevisionDate: 13-Apr-2006; LatestRevisionNote: IPC-7351 Footprint Added.; DatasheetVersion: Feb-2005; PackageVersion: Feb-2005; PackageReference: LAA064; Publisher: Altium Limited; PackageDescription: 64-Ball Fortified Ball Grid Array Rectangular 1 mm Pitch; ComponentLink1Description: Manufacturer Link; ComponentLink1URL: http://www.spansion.com/; ComponentLink2Description: Datasheet; ComponentLink2URL: http://www.spansion.com/datasheets/22366c3.pdf
footprint LAA064 (BGA, 64-Leads, Body 13x11mm, Pitch 1mm)
pins: A1 RFU, A2 A3 (in), A3 A7 (in), A4 RY/BY# (out), A5 WE# (in), A6 A9 (in), A7 A13 (in), A8 RFU, B1 RFU, B2 A4 (in), B3 A17 (in), B4 ACC (in), B5 RESET# (in), B6 A8 (in), B7 A12 (in), B8 RFU, C1 RFU, C2 A2 (in), C3 A6 (in), C4 A18 (in), C5 A21 (in), C6 A10 (in), C7 A14 (in), C8 RFU, D1 RFU, D2 A1 (in), D3 A5 (in), D4 A20 (in), D5 A19 (in), D6 A11 (in), D7 A15 (in), D8 VIO (power), E1 RFU, E2 A0 (in), E3 DQ0 (io), E4 DQ2 (io), E5 DQ5 (io), E6 DQ7 (io), E7 A16 (in), E8 VSS (power), F1 VIO (power), F2 CE# (in), F3 DQ8 (io), F4 DQ10 (io), F5 DQ12 (io), F6 DQ14 (io), F7 NC, F8 RFU, G1 RFU, G2 OE# (in), G3 DQ9 (io), G4 DQ11 (io), G5 VCC (power), G6 DQ13 (io), G7 DQ15 (io), G8 RFU, H1 RFU, H2 VSS (power), H3 DQ1 (io), H4 DQ3 (io), H5 DQ4 (io), H6 DQ6 (io), H7 VSS (power), H8 RFU

## AM29LV640DU121RPCI
designator U?
64 Mb (4 M x 16) CMOS 3.0 Volt, Uniform Sector Flash Memory with VersatileI/O Control, 64-Ball Fortified BGA, Industrial Grade; Published: 6-Oct-2005; LatestRevisionDate: 13-Apr-2006; LatestRevisionNote: IPC-7351 Footprint Added.; DatasheetVersion: Feb-2005; PackageVersion: Feb-2005; PackageReference: LAA064; Publisher: Altium Limited; PackageDescription: 64-Ball Fortified Ball Grid Array Rectangular 1 mm Pitch; ComponentLink1Description: Manufacturer Link; ComponentLink1URL: http://www.spansion.com/; ComponentLink2Description: Datasheet; ComponentLink2URL: http://www.spansion.com/datasheets/22366c3.pdf
footprint LAA064 (BGA, 64-Leads, Body 13x11mm, Pitch 1mm)
pins: A1 RFU, A2 A3 (in), A3 A7 (in), A4 RY/BY# (out), A5 WE# (in), A6 A9 (in), A7 A13 (in), A8 RFU, B1 RFU, B2 A4 (in), B3 A17 (in), B4 ACC (in), B5 RESET# (in), B6 A8 (in), B7 A12 (in), B8 RFU, C1 RFU, C2 A2 (in), C3 A6 (in), C4 A18 (in), C5 A21 (in), C6 A10 (in), C7 A14 (in), C8 RFU, D1 RFU, D2 A1 (in), D3 A5 (in), D4 A20 (in), D5 A19 (in), D6 A11 (in), D7 A15 (in), D8 VIO (power), E1 RFU, E2 A0 (in), E3 DQ0 (io), E4 DQ2 (io), E5 DQ5 (io), E6 DQ7 (io), E7 A16 (in), E8 VSS (power), F1 VIO (power), F2 CE# (in), F3 DQ8 (io), F4 DQ10 (io), F5 DQ12 (io), F6 DQ14 (io), F7 NC, F8 RFU, G1 RFU, G2 OE# (in), G3 DQ9 (io), G4 DQ11 (io), G5 VCC (power), G6 DQ13 (io), G7 DQ15 (io), G8 RFU, H1 RFU, H2 VSS (power), H3 DQ1 (io), H4 DQ3 (io), H5 DQ4 (io), H6 DQ6 (io), H7 VSS (power), H8 RFU

## AM29LV640DU121RWHF
designator U?
64 Mb (4 M x 16) CMOS 3.0 Volt, Uniform Sector Flash Memory with VersatileI/O Control, 63-Ball FBGA, Industrial Grade, Pb-free; Published: 6-Jun-2005; LatestRevisionDate: 13-Apr-2006; LatestRevisionNote: IPC-7351 Footprint Added.; DatasheetVersion: Feb-2005; PackageVersion: revAF, 10/99; PackageReference: FBE063; Publisher: Altium Limited; PackageDescription: 63-Ball Fine Pitch Ball Grid Array Rectangular 0.8 mm Pitch; ComponentLink1Description: Manufacturer Link; ComponentLink1URL: http://www.spansion.com/; ComponentLink2Description: Datasheet; ComponentLink2URL: http://www.spansion.com/datasheets/22366c3.pdf
footprint FBE063 (BGA, 63-Leads, Body 12x11mm, Pitch 0.8mm)
pins: A1 NC, A2 NC, A7 NC, A8 NC, B1 NC, B7 NC, B8 NC, C2 A3 (in), C3 A7 (in), C4 RY/BY# (out), C5 WE# (in), C6 A9 (in), C7 A13 (in), D2 A4 (in), D3 A17 (in), D4 ACC (in), D5 RESET# (in), D6 A8 (in), D7 A12 (in), E2 A2 (in), E3 A6 (in), E4 A18 (in), E5 A21 (in), E6 A10 (in), E7 A14 (in), F2 A1 (in), F3 A5 (in), F4 A20 (in), F5 A19 (in), F6 A11 (in), F7 A15 (in), G2 A0 (in), G3 DQ0 (io), G4 DQ2 (io), G5 DQ5 (io), G6 DQ7 (io), G7 A16 (in), H2 CE# (in), H3 DQ8 (io), H4 DQ10 (io), H5 DQ12 (io), H6 DQ14 (io), H7 VIO (power), J2 OE# (in), J3 DQ9 (io), J4 DQ11 (io), J5 VCC (power), J6 DQ13 (io), J7 DQ15 (io), K2 VSS (power), K3 DQ1 (io), K4 DQ3 (io), K5 DQ4 (io), K6 DQ6 (io), K7 VSS (power), L1 NC, L2 NC, L7 NC, L8 NC, M1 NC, M2 NC, M7 NC, M8 NC

## AM29LV640DU121RWHI
designator U?
64 Mb (4 M x 16) CMOS 3.0 Volt, Uniform Sector Flash Memory with VersatileI/O Control, 63-Ball FBGA, Industrial Grade; Published: 6-Jun-2005; LatestRevisionDate: 13-Apr-2006; LatestRevisionNote: IPC-7351 Footprint Added.; DatasheetVersion: Feb-2005; PackageVersion: revAF, 10/99; PackageReference: FBE063; Publisher: Altium Limited; PackageDescription: 63-Ball Fine Pitch Ball Grid Array Rectangular 0.8 mm Pitch; ComponentLink1Description: Manufacturer Link; ComponentLink1URL: http://www.spansion.com/; ComponentLink2Description: Datasheet; ComponentLink2URL: http://www.spansion.com/datasheets/22366c3.pdf
footprint FBE063 (BGA, 63-Leads, Body 12x11mm, Pitch 0.8mm)
pins: A1 NC, A2 NC, A7 NC, A8 NC, B1 NC, B7 NC, B8 NC, C2 A3 (in), C3 A7 (in), C4 RY/BY# (out), C5 WE# (in), C6 A9 (in), C7 A13 (in), D2 A4 (in), D3 A17 (in), D4 ACC (in), D5 RESET# (in), D6 A8 (in), D7 A12 (in), E2 A2 (in), E3 A6 (in), E4 A18 (in), E5 A21 (in), E6 A10 (in), E7 A14 (in), F2 A1 (in), F3 A5 (in), F4 A20 (in), F5 A19 (in), F6 A11 (in), F7 A15 (in), G2 A0 (in), G3 DQ0 (io), G4 DQ2 (io), G5 DQ5 (io), G6 DQ7 (io), G7 A16 (in), H2 CE# (in), H3 DQ8 (io), H4 DQ10 (io), H5 DQ12 (io), H6 DQ14 (io), H7 VIO (power), J2 OE# (in), J3 DQ9 (io), J4 DQ11 (io), J5 VCC (power), J6 DQ13 (io), J7 DQ15 (io), K2 VSS (power), K3 DQ1 (io), K4 DQ3 (io), K5 DQ4 (io), K6 DQ6 (io), K7 VSS (power), L1 NC, L2 NC, L7 NC, L8 NC, M1 NC, M2 NC, M7 NC, M8 NC

## AM29LV641DH90REF
designator U?
64 Mb (4 M x 16) CMOS 3.0 Volt, Uniform Sector Flash Memory with VersatileI/O Control, 48-Pin TSOP, Industrial Grade, Pb-free; Published: 6-Jun-2005; LatestRevisionDate: 06-Oct-2005; LatestRevisionNote: Schematic layout and Library name changed.; DatasheetVersion: Feb-2005; PackageVersion: revAA, 10/99; PackageReference: TS048; Publisher: Altium Limited; PackageDescription: Shrink Small Outline; 48 Leads; Body Width 18.4 mm; Pitch 0.5 mm; Code_JEDEC: MO-142-DD; ComponentLink1Description: Manufacturer Link; ComponentLink1URL: http://www.spansion.com/; ComponentLink2Description: Datasheet; ComponentLink2URL: http://www.spansion.com/datasheets/22366c3.pdf
footprint TS048 (Shrink Small Outline; 48 Leads; Body Width 18.4 mm; Pitch 0.5 mm)
3D model TS048 (Shrink Small Outline; 48 Leads; Body Width 18.4 mm; Pitch 0.5 mm)
pins: 1 A15 (in), 2 A14 (in), 3 A13 (in), 4 A12 (in), 5 A11 (in), 6 A10 (in), 7 A9 (in), 8 A8 (in), 9 A21 (in), 10 A20 (in), 11 WE# (in), 12 RESET# (in), 13 ACC (in), 14 WP# (in), 15 A19 (in), 16 A18 (in), 17 A17 (in), 18 A7 (in), 19 A6 (in), 20 A5 (in), 21 A4 (in), 22 A3 (in), 23 A2 (in), 24 A1 (in), 25 A0 (in), 26 CE# (in), 27 VSS (power), 28 OE# (in), 29 DQ0 (io), 30 DQ8 (io), 31 DQ1 (io), 32 DQ9 (io), 33 DQ2 (io), 34 DQ10 (io), 35 DQ3 (io), 36 DQ11 (io), 37 VCC (power), 38 DQ4 (io), 39 DQ12 (io), 40 DQ5 (io), 41 DQ13 (io), 42 DQ6 (io), 43 DQ14 (io), 44 DQ7 (io), 45 DQ15 (io), 46 VSS (power), 47 VIO (power), 48 A16 (in)

## AM29LV641DH90REI
designator U?
64 Mb (4 M x 16) CMOS 3.0 Volt, Uniform Sector Flash Memory with VersatileI/O Control, 48-Pin TSOP, Industrial Grade; Published: 6-Jun-2005; LatestRevisionDate: 06-Oct-2005; LatestRevisionNote: Schematic layout and Library name changed.; DatasheetVersion: Feb-2005; PackageVersion: revAA, 10/99; PackageReference: TS048; Publisher: Altium Limited; PackageDescription: Shrink Small Outline; 48 Leads; Body Width 18.4 mm; Pitch 0.5 mm; Code_JEDEC: MO-142-DD; ComponentLink1Description: Manufacturer Link; ComponentLink1URL: http://www.spansion.com/; ComponentLink2Description: Datasheet; ComponentLink2URL: http://www.spansion.com/datasheets/22366c3.pdf
footprint TS048 (Shrink Small Outline; 48 Leads; Body Width 18.4 mm; Pitch 0.5 mm)
3D model TS048 (Shrink Small Outline; 48 Leads; Body Width 18.4 mm; Pitch 0.5 mm)
pins: 1 A15 (in), 2 A14 (in), 3 A13 (in), 4 A12 (in), 5 A11 (in), 6 A10 (in), 7 A9 (in), 8 A8 (in), 9 A21 (in), 10 A20 (in), 11 WE# (in), 12 RESET# (in), 13 ACC (in), 14 WP# (in), 15 A19 (in), 16 A18 (in), 17 A17 (in), 18 A7 (in), 19 A6 (in), 20 A5 (in), 21 A4 (in), 22 A3 (in), 23 A2 (in), 24 A1 (in), 25 A0 (in), 26 CE# (in), 27 VSS (power), 28 OE# (in), 29 DQ0 (io), 30 DQ8 (io), 31 DQ1 (io), 32 DQ9 (io), 33 DQ2 (io), 34 DQ10 (io), 35 DQ3 (io), 36 DQ11 (io), 37 VCC (power), 38 DQ4 (io), 39 DQ12 (io), 40 DQ5 (io), 41 DQ13 (io), 42 DQ6 (io), 43 DQ14 (io), 44 DQ7 (io), 45 DQ15 (io), 46 VSS (power), 47 VIO (power), 48 A16 (in)

## AM29LV641DH101REF
designator U?
64 Mb (4 M x 16) CMOS 3.0 Volt, Uniform Sector Flash Memory with VersatileI/O Control, 48-Pin TSOP, Industrial Grade, Pb-free; Published: 6-Jun-2005; LatestRevisionDate: 06-Oct-2005; LatestRevisionNote: Schematic layout and Library name changed.; DatasheetVersion: Feb-2005; PackageVersion: revAA, 10/99; PackageReference: TS048; Publisher: Altium Limited; PackageDescription: Shrink Small Outline; 48 Leads; Body Width 18.4 mm; Pitch 0.5 mm; Code_JEDEC: MO-142-DD; ComponentLink1Description: Manufacturer Link; ComponentLink1URL: http://www.spansion.com/; ComponentLink2Description: Datasheet; ComponentLink2URL: http://www.spansion.com/datasheets/22366c3.pdf
footprint TS048 (Shrink Small Outline; 48 Leads; Body Width 18.4 mm; Pitch 0.5 mm)
3D model TS048 (Shrink Small Outline; 48 Leads; Body Width 18.4 mm; Pitch 0.5 mm)
pins: 1 A15 (in), 2 A14 (in), 3 A13 (in), 4 A12 (in), 5 A11 (in), 6 A10 (in), 7 A9 (in), 8 A8 (in), 9 A21 (in), 10 A20 (in), 11 WE# (in), 12 RESET# (in), 13 ACC (in), 14 WP# (in), 15 A19 (in), 16 A18 (in), 17 A17 (in), 18 A7 (in), 19 A6 (in), 20 A5 (in), 21 A4 (in), 22 A3 (in), 23 A2 (in), 24 A1 (in), 25 A0 (in), 26 CE# (in), 27 VSS (power), 28 OE# (in), 29 DQ0 (io), 30 DQ8 (io), 31 DQ1 (io), 32 DQ9 (io), 33 DQ2 (io), 34 DQ10 (io), 35 DQ3 (io), 36 DQ11 (io), 37 VCC (power), 38 DQ4 (io), 39 DQ12 (io), 40 DQ5 (io), 41 DQ13 (io), 42 DQ6 (io), 43 DQ14 (io), 44 DQ7 (io), 45 DQ15 (io), 46 VSS (power), 47 VIO (power), 48 A16 (in)

## AM29LV641DH101REI
designator U?
64 Mb (4 M x 16) CMOS 3.0 Volt, Uniform Sector Flash Memory with VersatileI/O Control, 48-Pin TSOP, Industrial Grade; Published: 6-Jun-2005; LatestRevisionDate: 06-Oct-2005; LatestRevisionNote: Schematic layout and Library name changed.; DatasheetVersion: Feb-2005; PackageVersion: revAA, 10/99; PackageReference: TS048; Publisher: Altium Limited; PackageDescription: Shrink Small Outline; 48 Leads; Body Width 18.4 mm; Pitch 0.5 mm; Code_JEDEC: MO-142-DD; ComponentLink1Description: Manufacturer Link; ComponentLink1URL: http://www.spansion.com/; ComponentLink2Description: Datasheet; ComponentLink2URL: http://www.spansion.com/datasheets/22366c3.pdf
footprint TS048 (Shrink Small Outline; 48 Leads; Body Width 18.4 mm; Pitch 0.5 mm)
3D model TS048 (Shrink Small Outline; 48 Leads; Body Width 18.4 mm; Pitch 0.5 mm)
pins: 1 A15 (in), 2 A14 (in), 3 A13 (in), 4 A12 (in), 5 A11 (in), 6 A10 (in), 7 A9 (in), 8 A8 (in), 9 A21 (in), 10 A20 (in), 11 WE# (in), 12 RESET# (in), 13 ACC (in), 14 WP# (in), 15 A19 (in), 16 A18 (in), 17 A17 (in), 18 A7 (in), 19 A6 (in), 20 A5 (in), 21 A4 (in), 22 A3 (in), 23 A2 (in), 24 A1 (in), 25 A0 (in), 26 CE# (in), 27 VSS (power), 28 OE# (in), 29 DQ0 (io), 30 DQ8 (io), 31 DQ1 (io), 32 DQ9 (io), 33 DQ2 (io), 34 DQ10 (io), 35 DQ3 (io), 36 DQ11 (io), 37 VCC (power), 38 DQ4 (io), 39 DQ12 (io), 40 DQ5 (io), 41 DQ13 (io), 42 DQ6 (io), 43 DQ14 (io), 44 DQ7 (io), 45 DQ15 (io), 46 VSS (power), 47 VIO (power), 48 A16 (in)

## AM29LV641DH120REF
designator U?
64 Mb (4 M x 16) CMOS 3.0 Volt, Uniform Sector Flash Memory with VersatileI/O Control, 48-Pin TSOP, Industrial Grade, Pb-free; Published: 6-Jun-2005; LatestRevisionDate: 06-Oct-2005; LatestRevisionNote: Schematic layout and Library name changed.; DatasheetVersion: Feb-2005; PackageVersion: revAA, 10/99; PackageReference: TS048; Publisher: Altium Limited; PackageDescription: Shrink Small Outline; 48 Leads; Body Width 18.4 mm; Pitch 0.5 mm; Code_JEDEC: MO-142-DD; ComponentLink1Description: Manufacturer Link; ComponentLink1URL: http://www.spansion.com/; ComponentLink2Description: Datasheet; ComponentLink2URL: http://www.spansion.com/datasheets/22366c3.pdf
footprint TS048 (Shrink Small Outline; 48 Leads; Body Width 18.4 mm; Pitch 0.5 mm)
3D model TS048 (Shrink Small Outline; 48 Leads; Body Width 18.4 mm; Pitch 0.5 mm)
pins: 1 A15 (in), 2 A14 (in), 3 A13 (in), 4 A12 (in), 5 A11 (in), 6 A10 (in), 7 A9 (in), 8 A8 (in), 9 A21 (in), 10 A20 (in), 11 WE# (in), 12 RESET# (in), 13 ACC (in), 14 WP# (in), 15 A19 (in), 16 A18 (in), 17 A17 (in), 18 A7 (in), 19 A6 (in), 20 A5 (in), 21 A4 (in), 22 A3 (in), 23 A2 (in), 24 A1 (in), 25 A0 (in), 26 CE# (in), 27 VSS (power), 28 OE# (in), 29 DQ0 (io), 30 DQ8 (io), 31 DQ1 (io), 32 DQ9 (io), 33 DQ2 (io), 34 DQ10 (io), 35 DQ3 (io), 36 DQ11 (io), 37 VCC (power), 38 DQ4 (io), 39 DQ12 (io), 40 DQ5 (io), 41 DQ13 (io), 42 DQ6 (io), 43 DQ14 (io), 44 DQ7 (io), 45 DQ15 (io), 46 VSS (power), 47 VIO (power), 48 A16 (in)

## AM29LV641DH120REI
designator U?
64 Mb (4 M x 16) CMOS 3.0 Volt, Uniform Sector Flash Memory with VersatileI/O Control, 48-Pin TSOP, Industrial Grade; Published: 6-Jun-2005; LatestRevisionDate: 06-Oct-2005; LatestRevisionNote: Schematic layout and Library name changed.; DatasheetVersion: Feb-2005; PackageVersion: revAA, 10/99; PackageReference: TS048; Publisher: Altium Limited; PackageDescription: Shrink Small Outline; 48 Leads; Body Width 18.4 mm; Pitch 0.5 mm; Code_JEDEC: MO-142-DD; ComponentLink1Description: Manufacturer Link; ComponentLink1URL: http://www.spansion.com/; ComponentLink2Description: Datasheet; ComponentLink2URL: http://www.spansion.com/datasheets/22366c3.pdf
footprint TS048 (Shrink Small Outline; 48 Leads; Body Width 18.4 mm; Pitch 0.5 mm)
3D model TS048 (Shrink Small Outline; 48 Leads; Body Width 18.4 mm; Pitch 0.5 mm)
pins: 1 A15 (in), 2 A14 (in), 3 A13 (in), 4 A12 (in), 5 A11 (in), 6 A10 (in), 7 A9 (in), 8 A8 (in), 9 A21 (in), 10 A20 (in), 11 WE# (in), 12 RESET# (in), 13 ACC (in), 14 WP# (in), 15 A19 (in), 16 A18 (in), 17 A17 (in), 18 A7 (in), 19 A6 (in), 20 A5 (in), 21 A4 (in), 22 A3 (in), 23 A2 (in), 24 A1 (in), 25 A0 (in), 26 CE# (in), 27 VSS (power), 28 OE# (in), 29 DQ0 (io), 30 DQ8 (io), 31 DQ1 (io), 32 DQ9 (io), 33 DQ2 (io), 34 DQ10 (io), 35 DQ3 (io), 36 DQ11 (io), 37 VCC (power), 38 DQ4 (io), 39 DQ12 (io), 40 DQ5 (io), 41 DQ13 (io), 42 DQ6 (io), 43 DQ14 (io), 44 DQ7 (io), 45 DQ15 (io), 46 VSS (power), 47 VIO (power), 48 A16 (in)

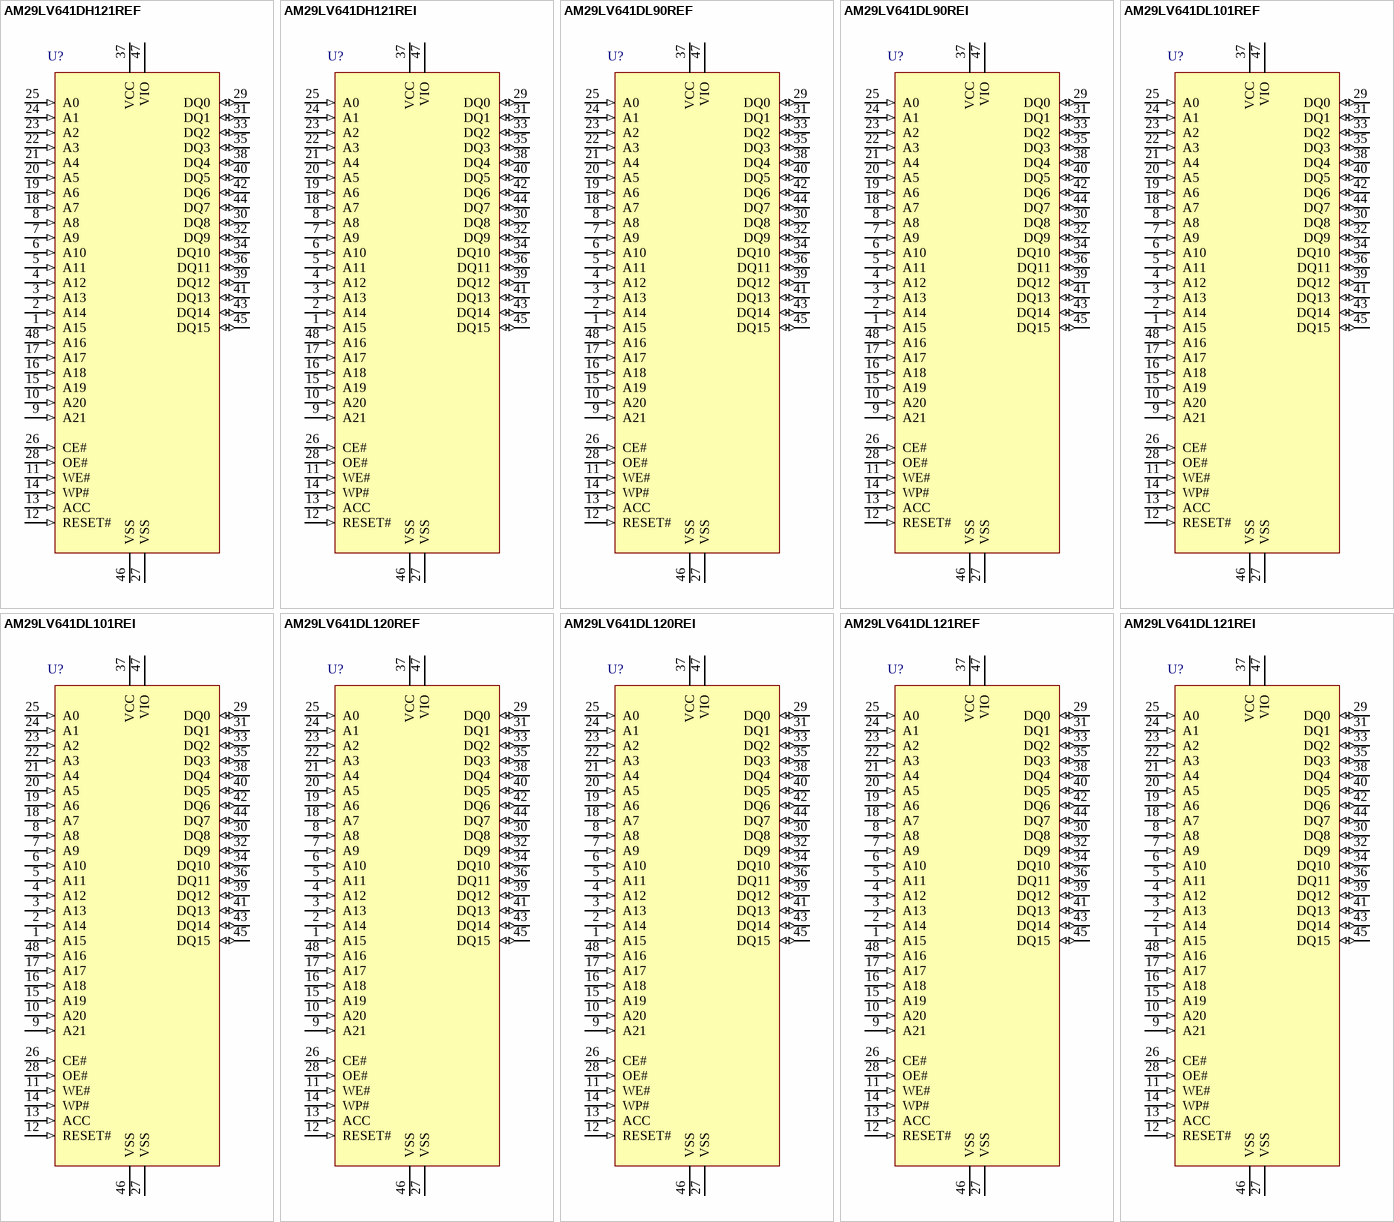
[diagram p64: symbols AM29LV641DH121REF to AM29LV641DL121REI]

## AM29LV641DH121REF
designator U?
64 Mb (4 M x 16) CMOS 3.0 Volt, Uniform Sector Flash Memory with VersatileI/O Control, 48-Pin TSOP, Industrial Grade, Pb-free; Published: 6-Jun-2005; LatestRevisionDate: 06-Oct-2005; LatestRevisionNote: Schematic layout and Library name changed.; DatasheetVersion: Feb-2005; PackageVersion: revAA, 10/99; PackageReference: TS048; Publisher: Altium Limited; PackageDescription: Shrink Small Outline; 48 Leads; Body Width 18.4 mm; Pitch 0.5 mm; Code_JEDEC: MO-142-DD; ComponentLink1Description: Manufacturer Link; ComponentLink1URL: http://www.spansion.com/; ComponentLink2Description: Datasheet; ComponentLink2URL: http://www.spansion.com/datasheets/22366c3.pdf
footprint TS048 (Shrink Small Outline; 48 Leads; Body Width 18.4 mm; Pitch 0.5 mm)
3D model TS048 (Shrink Small Outline; 48 Leads; Body Width 18.4 mm; Pitch 0.5 mm)
pins: 1 A15 (in), 2 A14 (in), 3 A13 (in), 4 A12 (in), 5 A11 (in), 6 A10 (in), 7 A9 (in), 8 A8 (in), 9 A21 (in), 10 A20 (in), 11 WE# (in), 12 RESET# (in), 13 ACC (in), 14 WP# (in), 15 A19 (in), 16 A18 (in), 17 A17 (in), 18 A7 (in), 19 A6 (in), 20 A5 (in), 21 A4 (in), 22 A3 (in), 23 A2 (in), 24 A1 (in), 25 A0 (in), 26 CE# (in), 27 VSS (power), 28 OE# (in), 29 DQ0 (io), 30 DQ8 (io), 31 DQ1 (io), 32 DQ9 (io), 33 DQ2 (io), 34 DQ10 (io), 35 DQ3 (io), 36 DQ11 (io), 37 VCC (power), 38 DQ4 (io), 39 DQ12 (io), 40 DQ5 (io), 41 DQ13 (io), 42 DQ6 (io), 43 DQ14 (io), 44 DQ7 (io), 45 DQ15 (io), 46 VSS (power), 47 VIO (power), 48 A16 (in)

## AM29LV641DH121REI
designator U?
64 Mb (4 M x 16) CMOS 3.0 Volt, Uniform Sector Flash Memory with VersatileI/O Control, 48-Pin TSOP, Industrial Grade; Published: 6-Jun-2005; LatestRevisionDate: 06-Oct-2005; LatestRevisionNote: Schematic layout and Library name changed.; DatasheetVersion: Feb-2005; PackageVersion: revAA, 10/99; PackageReference: TS048; Publisher: Altium Limited; PackageDescription: Shrink Small Outline; 48 Leads; Body Width 18.4 mm; Pitch 0.5 mm; Code_JEDEC: MO-142-DD; ComponentLink1Description: Manufacturer Link; ComponentLink1URL: http://www.spansion.com/; ComponentLink2Description: Datasheet; ComponentLink2URL: http://www.spansion.com/datasheets/22366c3.pdf
footprint TS048 (Shrink Small Outline; 48 Leads; Body Width 18.4 mm; Pitch 0.5 mm)
3D model TS048 (Shrink Small Outline; 48 Leads; Body Width 18.4 mm; Pitch 0.5 mm)
pins: 1 A15 (in), 2 A14 (in), 3 A13 (in), 4 A12 (in), 5 A11 (in), 6 A10 (in), 7 A9 (in), 8 A8 (in), 9 A21 (in), 10 A20 (in), 11 WE# (in), 12 RESET# (in), 13 ACC (in), 14 WP# (in), 15 A19 (in), 16 A18 (in), 17 A17 (in), 18 A7 (in), 19 A6 (in), 20 A5 (in), 21 A4 (in), 22 A3 (in), 23 A2 (in), 24 A1 (in), 25 A0 (in), 26 CE# (in), 27 VSS (power), 28 OE# (in), 29 DQ0 (io), 30 DQ8 (io), 31 DQ1 (io), 32 DQ9 (io), 33 DQ2 (io), 34 DQ10 (io), 35 DQ3 (io), 36 DQ11 (io), 37 VCC (power), 38 DQ4 (io), 39 DQ12 (io), 40 DQ5 (io), 41 DQ13 (io), 42 DQ6 (io), 43 DQ14 (io), 44 DQ7 (io), 45 DQ15 (io), 46 VSS (power), 47 VIO (power), 48 A16 (in)

## AM29LV641DL90REF
designator U?
64 Mb (4 M x 16) CMOS 3.0 Volt, Uniform Sector Flash Memory with VersatileI/O Control, 48-Pin TSOP, Industrial Grade, Pb-free; Published: 6-Jun-2005; LatestRevisionDate: 06-Oct-2005; LatestRevisionNote: Schematic layout and Library name changed.; DatasheetVersion: Feb-2005; PackageVersion: revAA, 10/99; PackageReference: TS048; Publisher: Altium Limited; PackageDescription: Shrink Small Outline; 48 Leads; Body Width 18.4 mm; Pitch 0.5 mm; Code_JEDEC: MO-142-DD; ComponentLink1Description: Manufacturer Link; ComponentLink1URL: http://www.spansion.com/; ComponentLink2Description: Datasheet; ComponentLink2URL: http://www.spansion.com/datasheets/22366c3.pdf
footprint TS048 (Shrink Small Outline; 48 Leads; Body Width 18.4 mm; Pitch 0.5 mm)
3D model TS048 (Shrink Small Outline; 48 Leads; Body Width 18.4 mm; Pitch 0.5 mm)
pins: 1 A15 (in), 2 A14 (in), 3 A13 (in), 4 A12 (in), 5 A11 (in), 6 A10 (in), 7 A9 (in), 8 A8 (in), 9 A21 (in), 10 A20 (in), 11 WE# (in), 12 RESET# (in), 13 ACC (in), 14 WP# (in), 15 A19 (in), 16 A18 (in), 17 A17 (in), 18 A7 (in), 19 A6 (in), 20 A5 (in), 21 A4 (in), 22 A3 (in), 23 A2 (in), 24 A1 (in), 25 A0 (in), 26 CE# (in), 27 VSS (power), 28 OE# (in), 29 DQ0 (io), 30 DQ8 (io), 31 DQ1 (io), 32 DQ9 (io), 33 DQ2 (io), 34 DQ10 (io), 35 DQ3 (io), 36 DQ11 (io), 37 VCC (power), 38 DQ4 (io), 39 DQ12 (io), 40 DQ5 (io), 41 DQ13 (io), 42 DQ6 (io), 43 DQ14 (io), 44 DQ7 (io), 45 DQ15 (io), 46 VSS (power), 47 VIO (power), 48 A16 (in)